# EAGLE library part TSW-S-46_S (library con-samtec-tsw)
HEADER
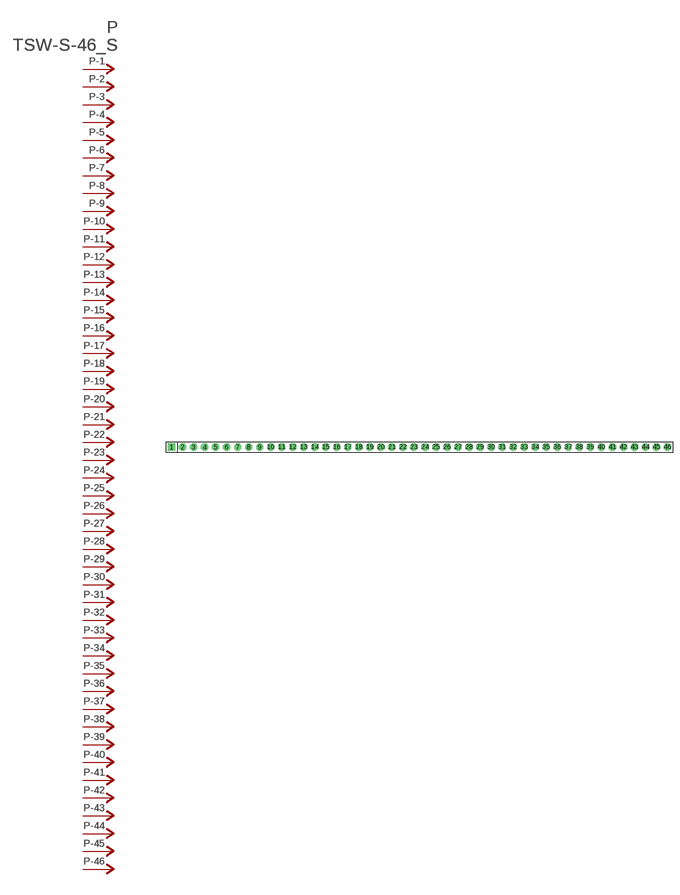
[diagram p85: symbol with the pads of TSW-S-46; footprint TSW-S-46]

Designator prefix P; gates -1=P-NV -2=P-N -3=P-N -4=P-N -5=P-N -6=P-N -7=P-N -8=P-N -9=P-N -10=P-N -11=P-N -12=P-N -13=P-N -14=P-N -15=P-N -16=P-N -17=P-N -18=P-N -19=P-N -20=P-N -21=P-N -22=P-N -23=P-N -24=P-N -25=P-N -26=P-N -27=P-N -28=P-N -29=P-N -30=P-N -31=P-N -32=P-N -33=P-N -34=P-N -35=P-N -36=P-N -37=P-N -38=P-N -39=P-N -40=P-N -41=P-N -42=P-N -43=P-N -44=P-N -45=P-N -46=P-N

## TSW-S-46_S  [TSW-S-46]
1  -1:P  pas
2  -2:P  pas
3  -3:P  pas
4  -4:P  pas
5  -5:P  pas
6  -6:P  pas
7  -7:P  pas
8  -8:P  pas
9  -9:P  pas
10  -10:P  pas
11  -11:P  pas
12  -12:P  pas
13  -13:P  pas
14  -14:P  pas
15  -15:P  pas
16  -16:P  pas
17  -17:P  pas
18  -18:P  pas
19  -19:P  pas
20  -20:P  pas
21  -21:P  pas
22  -22:P  pas
23  -23:P  pas
24  -24:P  pas
25  -25:P  pas
26  -26:P  pas
27  -27:P  pas
28  -28:P  pas
29  -29:P  pas
30  -30:P  pas
31  -31:P  pas
32  -32:P  pas
33  -33:P  pas
34  -34:P  pas
35  -35:P  pas
36  -36:P  pas
37  -37:P  pas
38  -38:P  pas
39  -39:P  pas
40  -40:P  pas
41  -41:P  pas
42  -42:P  pas
43  -43:P  pas
44  -44:P  pas
45  -45:P  pas
46  -46:P  pas

## Footprint TSW-S-46 (pad centres in mm)
HEADER
drill 0.914 pad 1.676 square: 1 -57.15,0
drill 0.914 pad 1.676 octagon: 2 -54.61,0; 3 -52.07,0; 4 -49.53,0; 5 -46.99,0; 6 -44.45,0; 7 -41.91,0; 8 -39.37,0; 9 -36.83,0; 10 -34.29,0; 11 -31.75,0; 12 -29.21,0; 13 -26.67,0; 14 -24.13,0; 15 -21.59,0; 16 -19.05,0; 17 -16.51,0; 18 -13.97,0; 19 -11.43,0; 20 -8.89,0; 21 -6.35,0; 22 -3.81,0; 23 -1.27,0; 24 1.27,0; 25 3.81,0; 26 6.35,0; 27 8.89,0; 28 11.43,0; 29 13.97,0; 30 16.51,0; 31 19.05,0; 32 21.59,0; 33 24.13,0; 34 26.67,0; 35 29.21,0; 36 31.75,0; 37 34.29,0; 38 36.83,0; 39 39.37,0; 40 41.91,0; 41 44.45,0; 42 46.99,0; 43 49.53,0; 44 52.07,0; 45 54.61,0; 46 57.15,0